# EAGLE library part TLC272 (library Operationsverstärker - TLC272)
Name des Bauteiles:TLC272 Daten:Texas Instr.: TLC272ID Artikelnummer:#045303 Datenblatt:www.datasheet.com
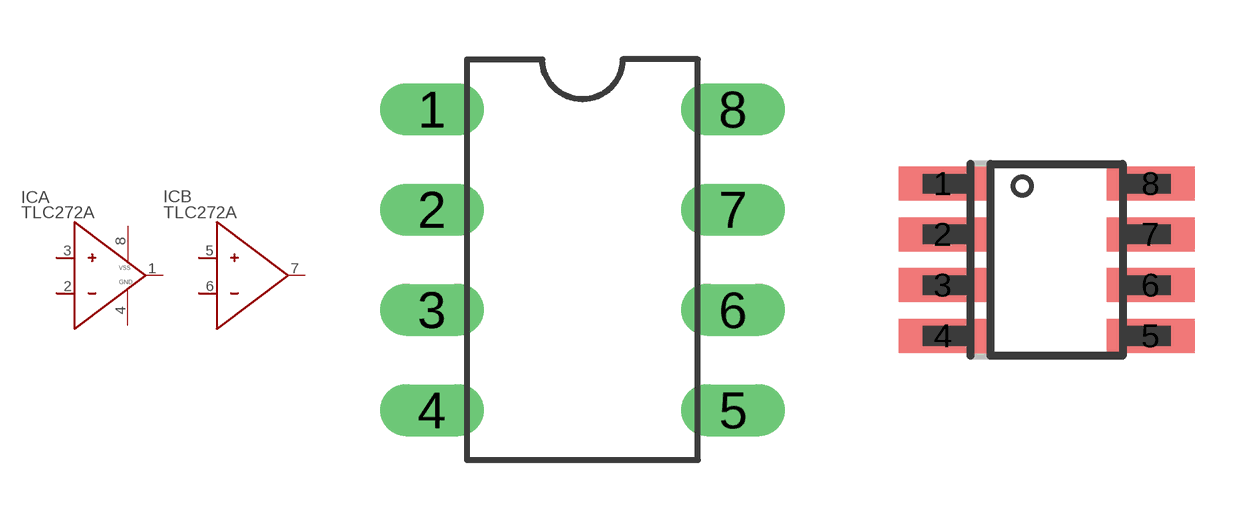
[diagram p0: symbol with the pads of DIL8; footprints DIL8, SO8]

Designator prefix IC; gates A=TLC272A B=TLC272B

## TLC272THT  [DIL8]
1  A:1
2  A:2
3  A:3
4  A:4
5  B:5
6  B:6
7  B:7
8  A:8

## TLC272SMD  [SO8]
1  A:1
2  A:2
3  A:3
4  A:4
5  A:8
6  B:5
7  B:6
8  B:7

## Footprint DIL8 (pad centres in mm)
drill 0.813 long: 1 -3.81,3.81; 2 -3.81,1.27; 3 -3.81,-1.27; 4 -3.81,-3.81; 5 3.81,-3.81; 6 3.81,-1.27; 7 3.81,1.27; 8 3.81,3.81

## Footprint SO8 (pad centres in mm)
smd 2.2 x 0.854: 1 -2.6,1.905; 2 -2.6,0.635; 3 -2.6,-0.635; 4 -2.6,-1.905; 5 2.6,-1.905; 6 2.6,-0.635; 7 2.6,0.635; 8 2.6,1.905